# EAGLE library part LMV344 (library marionette)
Rail-to-Rail Output CMOS Operational Amplifier with Shutdown Datasheet: http://www.ti.com/lit/ds/symlink/lmv341.pdf Digikey Part No.: 296-20925-1-ND
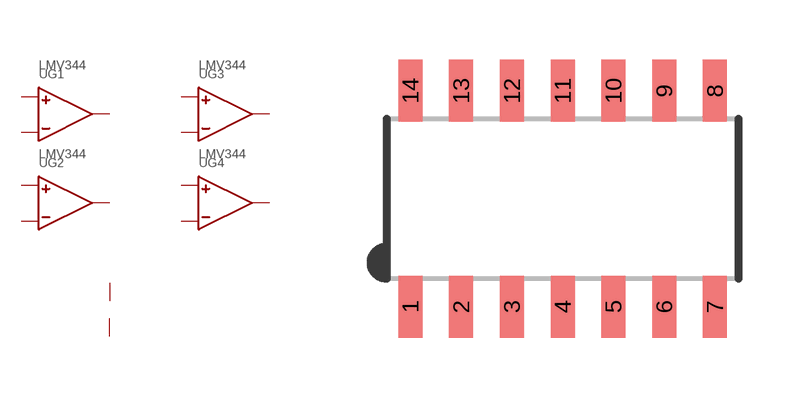
[diagram p1: symbol with the pads of SOIC-14; footprint SOIC-14]

Designator prefix U; gates G1=OPAMP G2=OPAMP G3=OPAMP G4=OPAMP G5=SUPPLY

## LMV344  [SOIC-14]
1  G1:OUT
2  G1:-V
3  G1:+V
4  G5:VCC
5  G2:+V
6  G2:-V
7  G2:OUT
8  G3:OUT
9  G3:-V
10  G3:+V
11  G5:GND
12  G4:+V
13  G4:-V
14  G4:OUT

## Footprint SOIC-14 (pad centres in mm)
SOIC-14
smd 0.6 x 1.55: 1 -3.81,-2.7; 2 -2.54,-2.7; 3 -1.27,-2.7; 4 0,-2.7; 5 1.27,-2.7; 6 2.54,-2.7; 7 3.81,-2.7; 8 3.81,2.7; 9 2.54,2.7; 10 1.27,2.7; 11 0,2.7; 12 -1.27,2.7; 13 -2.54,2.7; 14 -3.81,2.7